# EAGLE library part FDS6692A (library Discrete)
Fairchild N-Channel PowerTrench MOSFET, 30V, 9A, 11.5Ohm
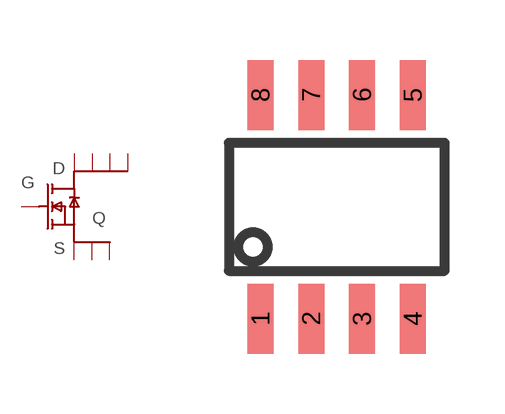
[diagram p14: symbol with the pads of SOIC8; footprint SOIC8]

Designator prefix Q

## FDS6692A  [SOIC8]
1  S1
2  S2
3  S3
4  G
5  D1
6  D2
7  D3
8  D4

## Footprint SOIC8 (pad centres in mm)
Fairchild 8 Lead SOIC package
smd 0.65 x 1.75: 1 -1.905,-2.8; 2 -0.635,-2.8; 3 0.635,-2.8; 4 1.905,-2.8; 5 1.905,2.8; 6 0.635,2.8; 7 -0.635,2.8; 8 -1.905,2.8